# EAGLE library part PI3_HEADER_W_PADS (library 3D_MIG_Controller)
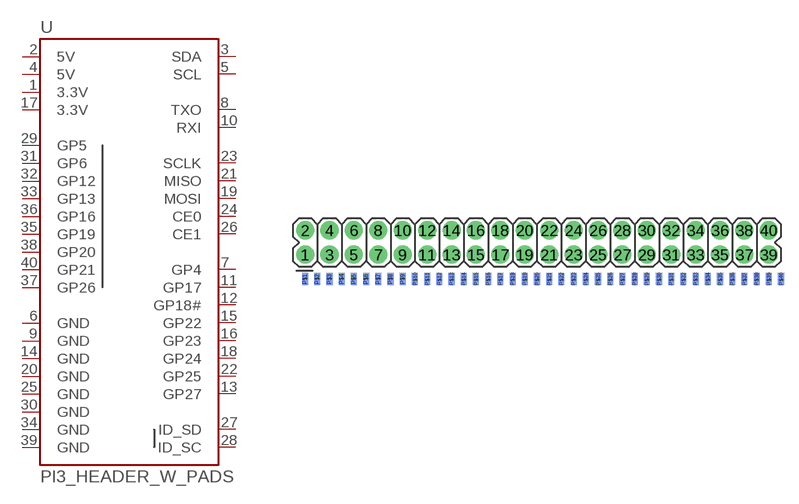
[diagram p7: symbol with the pads of PI3_HEADER_W_PADS; footprint PI3_HEADER_W_PADS]

Designator prefix -

## PI3_HEADER_W_PADS  [PI3_HEADER_W_PADS]
1  3.3V  pwr
2  5V  pwr
3  SDA
4  5V  pwr
5  SCL
6  GND  pwr
7  GP4
8  TXO  out
9  GND  pwr
10  RXI  in
11  GP17
12  GP18#
13  GP27
14  GND  pwr
15  GP22
16  GP23
17  3.3V  pwr
18  GP24
19  MOSI  out
20  GND  pwr
21  MISO  in
22  GP25
23  SCLK  out
24  CE0  out
25  GND  pwr
26  CE1  out
27  ID_SD
28  ID_SC
29  GP5
30  GND  pwr
31  GP6
32  GP12
33  GP13
34  GND  pwr
35  GP19
36  GP16
37  GP26
38  GP20
39  GND  pwr
40  GP21

## Footprint PI3_HEADER_W_PADS (pad centres in mm)
drill 1 pad 1.88: 1 -24.13,-1.27; 2 -24.13,1.27; 3 -21.59,-1.27; 4 -21.59,1.27; 5 -19.05,-1.27; 6 -19.05,1.27; 7 -16.51,-1.27; 8 -16.51,1.27; 9 -13.97,-1.27; 10 -13.97,1.27; 11 -11.43,-1.27; 12 -11.43,1.27; 13 -8.89,-1.27; 14 -8.89,1.27; 15 -6.35,-1.27; 16 -6.35,1.27; 17 -3.81,-1.27; 18 -3.81,1.27; 19 -1.27,-1.27; 20 -1.27,1.27; 21 1.27,-1.27; 22 1.27,1.27; 23 3.81,-1.27; 24 3.81,1.27; 25 6.35,-1.27; 26 6.35,1.27; 27 8.89,-1.27; 28 8.89,1.27; 29 11.43,-1.27; 30 11.43,1.27; 31 13.97,-1.27; 32 13.97,1.27; 33 16.51,-1.27; 34 16.51,1.27; 35 19.05,-1.27; 36 19.05,1.27; 37 21.59,-1.27; 38 21.59,1.27; 39 24.13,-1.27; 40 24.13,1.27
smd 0.635 x 1.27 bottom: P$1 -24.13,-3.81; P$2 -22.86,-3.81; P$3 -21.59,-3.81; P$4 -20.32,-3.81; P$5 -19.05,-3.81; P$6 -17.78,-3.81; P$7 -16.51,-3.81; P$8 -15.24,-3.81; P$9 -13.97,-3.81; P$10 -12.7,-3.81; P$11 -11.43,-3.81; P$12 -10.16,-3.81; P$13 -8.89,-3.81; P$14 -7.62,-3.81; P$15 -6.35,-3.81; P$16 -5.08,-3.81; P$17 -3.81,-3.81; P$18 -2.54,-3.81; P$19 -1.27,-3.81; P$20 0,-3.81; P$21 1.27,-3.81; P$22 2.54,-3.81; P$23 3.81,-3.81; P$24 5.08,-3.81; P$25 6.35,-3.81; P$26 7.62,-3.81; P$27 8.89,-3.81; P$28 10.16,-3.81; P$29 11.43,-3.81; P$30 12.7,-3.81; P$31 13.97,-3.81; P$32 15.24,-3.81; P$33 16.51,-3.81; P$34 17.78,-3.81; P$35 19.05,-3.81; P$36 20.32,-3.81; P$37 21.59,-3.81; P$38 22.86,-3.81; P$39 24.13,-3.81; P$40 25.4,-3.81